# EAGLE library part LF412* (library my_mixed)
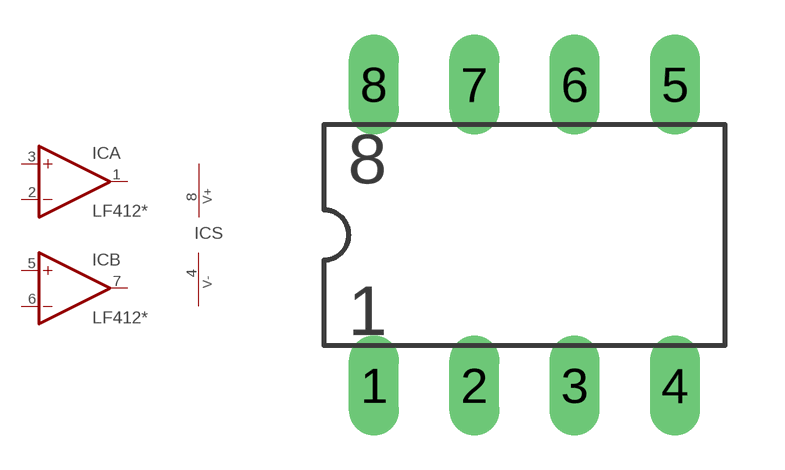
[diagram p25: symbol with the pads of DIL08-2; footprint DIL08-2]

Designator prefix IC; gates A=OPA B=OPB S=OPSUP

## LF412ACN  [DIL08-2]
1  A:OUT  out
2  A:-IN  in
3  A:+IN  in
4  S:V-  pwr
5  B:+IN  in
6  B:-IN  in
7  B:OUT  out
8  S:V+  pwr

## LF412CN  [DIL08-2]
Pads as for DIL08-2

## Footprint DIL08-2 (pad centres in mm)
DIL08-2
drill 0.305 pad 1.27 long: 1 -3.81,-3.81; 2 -1.27,-3.81; 3 1.27,-3.81; 4 3.81,-3.81; 5 3.81,3.81; 6 1.27,3.81; 7 -1.27,3.81; 8 -3.81,3.81